# Altium schematic symbol library BMS.SchLib: 68 symbols (part 1 of 4)
Pins are listed as number, name and electrical type; pins without a type are passive.

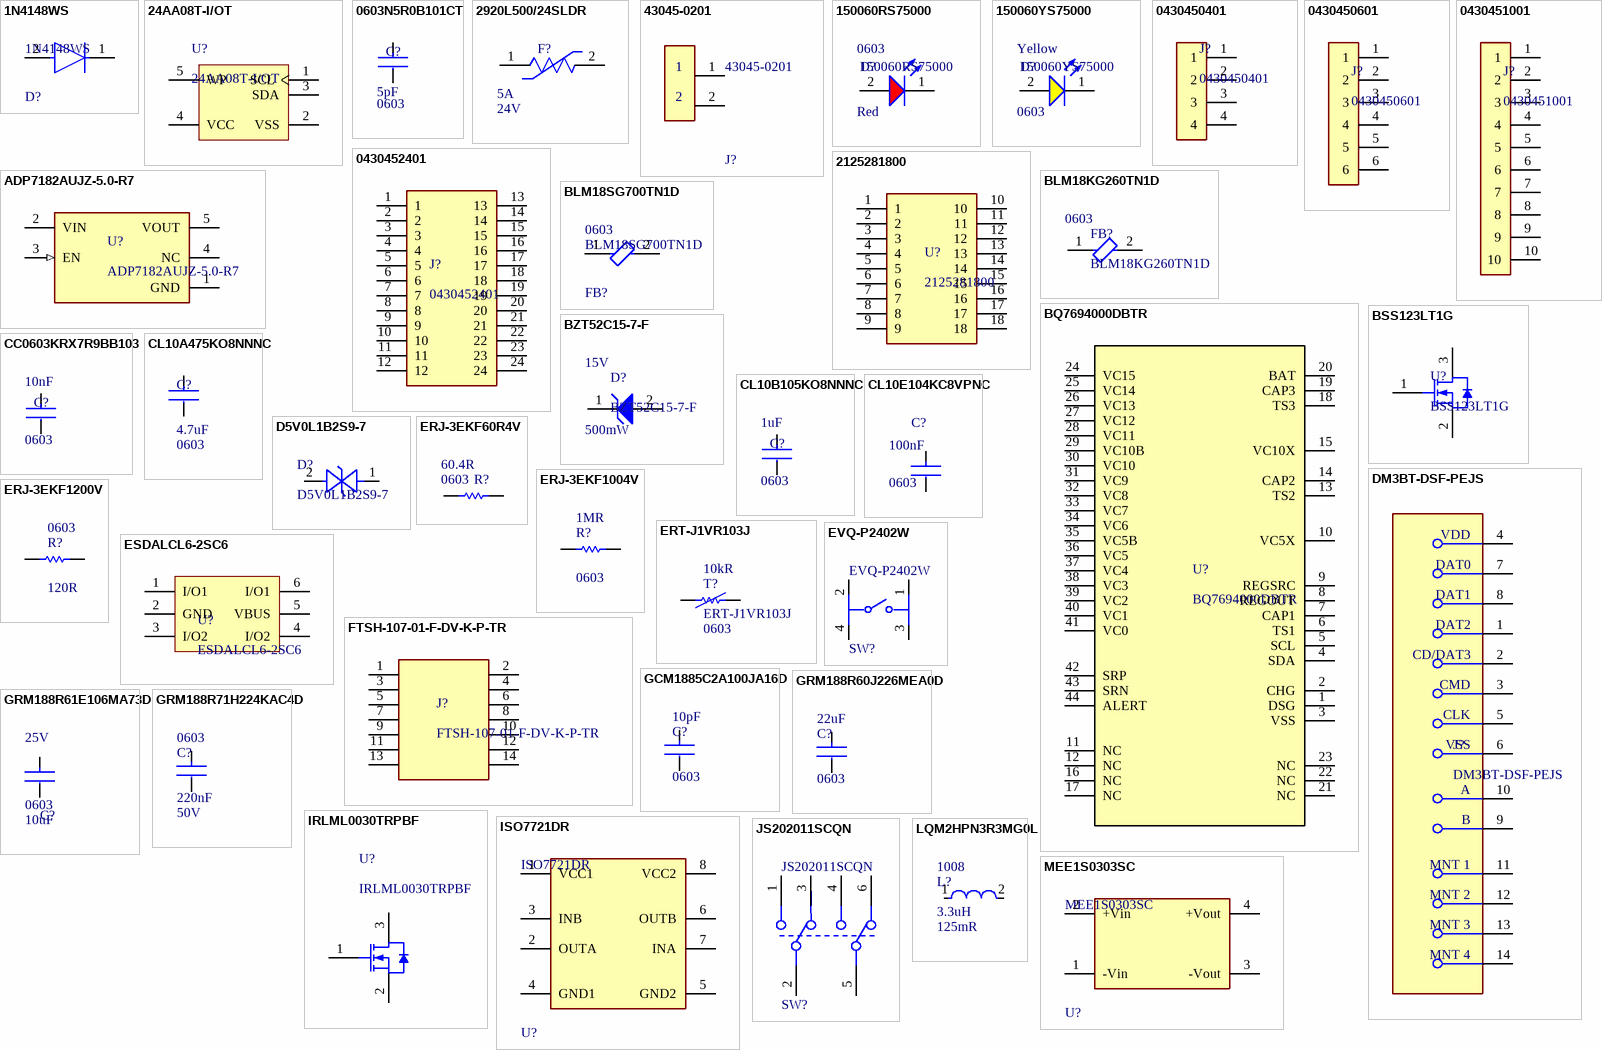
[diagram p0: symbols 1N4148WS to MEE1S0303SC]

## 1N4148WS
designator D?
DIODE STANDARD 75V 150MA SOD323F; Manufacturer: ON Semiconductor / Fairchild; Forward Voltage: 1V; Power Dissipation: 200mW; Element Configuration: Single; Max Forward Surge Current (Ifsm): 2A; Peak Reverse Current: 5uA; Recovery Time: 4ns; Value: 4pF; Package Quantity: 1; Number of Pins: 2; Height: 1mm; REACH SVHC: No SVHC; Max Reverse Voltage (DC): 75V; Forward Current: 150mA; Length: 1.8mm; Max Repetitive Reverse Voltage (Vrrm): 75V; Max Operating Temperature: 150°C; Average Rectified Current: 150mA; Contact Plating: Tin; Packaging: Tape and Reel; Radiation Hardening: No; Min Operating Temperature: -55°C; Width: 1.35mm; Weight: 0.0276g; Lead Free: Lead Free; Mount: Surface Mount; Reverse Voltage: 75V; Reverse Recovery Time: 4ns; Supplier: Arrow Electronics; Supplier Part Number: 1N4148WS; Manufacturer Part Number: 1N4148WS; RoHS: Yes; Category: Rectifier Diodes; Stock: 1101000; Pricing: 3000=0.0188, 9000=0.0158 (USD); Mounting Technology: Surface Mount; Pins: 2; Max Reverse Current: 5uA; Series: -; RoHS Compliant: Yes; Reach SVHC Compliant: No
footprint FP-477AB-IPC_B
pins: 1 C, 2 A

## 24AA08T-I/OT
designator U?
IC EEPROM 8KBIT I2C SOT23-5; Manufacturer: Microchip; Interface: I2C,Serial,2-Wire; Access Time: 900ns; Min Supply Voltage: 1.7V; Max Supply Voltage: 5.5V; Frequency: 100kHz; Density: 8Kb; Clock Frequency: 400kHz; Access Time-Max: 3500ns; Write Protection: YES; Supply Current: 3mA; Organization: 256 x 8; Write Cycle Time-Max (tWC): 5ms; DatasheetVersion: revJ, Feb-2009; PackageReference: SOT-23-OT5; Code_IPC: SOT23-5; PackageVersion: revBB, Aug-2009; PackageDescription: 5-Lead Plastic Small Outline Transistor (OT) [SOT-23]; Supplier: Arrow Electronics; Supplier Part Number: 24AA08T-I/OT; Manufacturer Part Number: 24AA08T-I/OT; RoHS: Yes; Category: EEPROM; Stock: 15000; Pricing: 3000=0.2882 (USD); Mounting Technology: Surface Mount; Case/Package: SOT-23; Pins: 5; Min Operating Temperature: -40°C; Max Operating Temperature: 85°C; Packaging: Tape and Reel; Memory Size: 8Kb; Memory Format: EEPROM; Programming Voltage: 5.5V; Package Quantity: 3000; Termination: SMD/SMT; Nominal Supply Voltage: 5.5V; Length: 3.1mm; Width: 1.8mm; Height: 1.3mm; Radiation Hardening: No; Reach SVHC Compliant: No; Lead Free: Lead Free; ComponentLink1URL: https://datasheet.ciiva.com/3185/21710j-3185200.pdf?src-supplier=Avnet; ComponentLink1Description: https://datasheet.ciiva.com/3185/21710j-3185200.pdf?src-supplier=Avnet; ComponentLink2URL: https://datasheet.ciiva.com/16208/filehandler-aspxddocname-en011857-16208680.pdf?src-supplier=Future+Electronics; ComponentLink2Description: https://datasheet.ciiva.com/16208/filehandler-aspxddocname-en011857-16208680.pdf?src-supplier=Future+Electronics; ComponentLink3URL: https://datasheet.ciiva.com/15123/getdatasheetpartid-387412-15123429.pdf?src-supplier=Verical; ComponentLink3Description: https://datasheet.ciiva.com/15123/getdatasheetpartid-387412-15123429.pdf?src-supplier=Verical; ComponentLink4URL: https://datasheet.ciiva.com/16921/70045816-16921574.pdf?src-supplier=Allied+Electronics; ComponentLink4Description: https://datasheet.ciiva.com/16921/70045816-16921574.pdf?src-supplier=Allied+Electronics; ComponentLink5URL: https://datasheet.ciiva.com/14134/24aa08-24lc08b-eng-tds-14134860.pdf?src-supplier=Distrelec; ComponentLink5Description: https://datasheet.ciiva.com/14134/24aa08-24lc08b-eng-tds-14134860.pdf?src-supplier=Distrelec; ComponentLink6URL: https://datasheet.ciiva.com/1154/1688094-1154746.pdf?src-supplier=Element14; ComponentLink6Description: https://datasheet.ciiva.com/1154/1688094-1154746.pdf?src-supplier=Element14; ComponentLink7URL: https://datasheet.ciiva.com/46410/1669361-46410950.pdf?src-supplier=Element14; ComponentLink7Description: https://datasheet.ciiva.com/46410/1669361-46410950.pdf?src-supplier=Element14
footprint SOT-23-OT5_M (SOT23, 5-Leads, Body 2.9x1.7mm, Pitch 0.95mm, Lead Span 2.8mm, IPC Low Density)
pins: 1 SCL, 2 VSS (power), 3 SDA, 4 VCC (power), 5 WP

## 0603N5R0B101CT
designator C?  value 5pF  Case: 0603  (hidden comment: 0603N5R0B101CT)
CAP CER 5PF 100V C0G/NP0 0603; Manufacturer: Walsin Technologies; Supplier: Digikey; Supplier Part Number: 1292-1649-1-ND; Manufacturer Part Number: 0603N5R0B101CT; RoHS: Yes; Category: Ceramic Capacitors; Stock: 11864; Pricing: 1=0.1, 10=0.067, 50=0.0402, 100=0.0316, 500=0.02332, 1000=0.01931 (USD); ComponentLink1URL: http://www.passivecomponent.com/wp-content/uploads/2018/10/MLCC.pdf?src-supplier=Digikey; ComponentLink1Description: http://www.passivecomponent.com/wp-content/uploads/2018/10/MLCC.pdf?src-supplier=Digikey
footprint C0603-V2
pins: 1, 2

## 2920L500/24SLDR
designator F?  value 5A  Voltage: 24V  (hidden comment: 2920L500/24SLDR)
PTC RESET FUSE 5.0A 24V 2920; Manufacturer: Littelfuse; Supplier: Digikey; Supplier Part Number: 18-2920L500/24SLDRCT-ND; Manufacturer Part Number: 2920L500/24SLDR; RoHS: Yes; Category: PTC Resettable Fuses; Stock: 611; Pricing: 1=2.92, 5=2.42, 10=2.233, 50=1.8522, 100=1.7085, 250=1.53484, 500=1.41466 (USD); ComponentLink1URL: https://datasheet.octopart.com/2920L500-24SLDR-Littelfuse-datasheet-170674149.pdf?src-supplier=Future+Electronics; ComponentLink1Description: https://datasheet.octopart.com/2920L500-24SLDR-Littelfuse-datasheet-170674149.pdf?src-supplier=Future+Electronics
footprint FUSE_0ZCF0075AF2C
pins: 1, 2

## 43045-0201
designator J?
CONN HEADER R/A 2POS; Manufacturer: Molex; Number of Circuits: 2; Glow Wire Compliant: Compliant; Pitch: 3mm; Max Voltage Rating (DC): 250.25kV; Current Rating: 5A; Contact Resistance: 10mR; Gender: Male; Voltage Rating: 250V; Connector Type: Power,Rectangular; Contact Style: SQ PIN-SKT; Dielectric Withstanding Voltage (AC): 1.5kV; Durability: 30Cycles; Insulation Resistance: 1GR; Mixed Contacts: No; Number Of Connectors: 1; Option: General Purpose; Board Mounting Option: PEG; Body/Shell Style: RECEPTACLE; Contact Pattern: RECTANGULAR; Insertion Force-Max: 11.5648N; Mating Information: MULTIPLE MATING PARTS AVAILABLE; Polarization Key: POLARIZED HOUSING; Withdrawl Force-Min: 3.0024N; Mounting Option 1: POLARIZED LCK; Body Breadth: 0.345inch; Body Depth: 0.48inch; Body Length: 0.262inch; Mating Contact Row Spacing: 0.118inch; Mounting Option 2: LOCKING; PCB Contact Row Spacing: 2.9972mm; Plating Thickness: 15uin; Reference Standard: UL; Reliability: COMMERCIAL; Number of Positions: 2; Halogen Free: Low Halogen; Series: 43045; Mount: Through Hole; Packaging: Tray; Row Spacing: 3mm; Contact Material: Brass; Radiation Hardening: No; Number of Contacts: 2; Orientation: Right Angle; Max Operating Temperature: 105°C; Housing Material: Thermoplastic; Contact Plating: Gold; Case/Package: 0201; Number of Rows: 2; Min Operating Temperature: -40°C; Termination: Solder; Package Quantity: 3168; Supplier: Arrow Electronics; Supplier Part Number: 43045-0201; Manufacturer Part Number: 43045-0201; RoHS: Yes; Category: Headers and Wire Housings; Stock: 5046; Pricing: 1=0.6234, 10=0.5719, 25=0.5498, 40=0.537, 80=0.5194, 230=0.5108 (USD); Mounting Technology: Board; Contact Finish - Mating: GOLD (15) OVER NICKEL; Contact Finish - Termination: TIN (100) OVER NICKEL; Insulation Color: Black; Insulation Material: Polymer; Shell Material: Polymer; Contact Gender: Male; Mounting Style: RIGHT ANGLE; JESD-609 Code: e3; Empty Shell: No; Filter Feature: No; Number Of PCB Rows: 2; Number of Rows Loaded: 2; PCB Contact Pattern: RECTANGULAR; Rated Current (Signal): 5A; Terminal Length: 0.125inch; Flammability Rating: UL94 V-0; Reach SVHC Compliant: Yes; RoHS Compliant: Yes; DIN Conformance: No; IEC Conformance: No; MIL Conformance: No; ComponentLink1URL: https://datasheet.ciiva.com:443/pdfs/VipMasterIC/IC/MOLE/MOLE-S-A0003536766/MOLE-S-A0003536766-1.pdf?src-supplier=IHS+Markit; ComponentLink1Description: https://datasheet.ciiva.com:443/pdfs/VipMasterIC/IC/MOLE/MOLE-S-A0003536766/MOLE-S-A0003536766-1.pdf?src-supplier=IHS+Markit; ComponentLink2URL: https://datasheet.ciiva.com/10089/0430450201-pcb-headers-10089441.pdf?src-supplier=Avnet; ComponentLink2Description: https://datasheet.ciiva.com/10089/0430450201-pcb-headers-10089441.pdf?src-supplier=Avnet; ComponentLink3URL: https://datasheet.ciiva.com/30109/87140430450201-pcb-headers-30109745.pdf?src-supplier=Onlinecomponents.com; ComponentLink3Description: https://datasheet.ciiva.com/30109/87140430450201-pcb-headers-30109745.pdf?src-supplier=Onlinecomponents.com; ComponentLink4URL: https://datasheet.ciiva.com/6841/430450201-sd-6841067.pdf?src-supplier=Digikey; ComponentLink4Description: https://datasheet.ciiva.com/6841/430450201-sd-6841067.pdf?src-supplier=Digikey; ComponentLink5URL: https://datasheet.ciiva.com/26310/micro-fit-eng-tds-26310749.pdf?src-supplier=Distrelec; ComponentLink5Description: https://datasheet.ciiva.com/26310/micro-fit-eng-tds-26310749.pdf?src-supplier=Distrelec
footprint FP-43045-0201-MFG
pins: 1, 2

## 150060RS75000
designator D?  Color: Red  Case/Package: 0603
LED RED CLEAR 0603 SMD; Manufacturer: Wurth Electronics; Max Junction Temperature (Tj): 95°C; Dominant Wavelength: 625nm; Lens Style: Clear, Rectangular; Viewing Angle: 140°; Forward Current: 100mA; Max Reverse Voltage (DC): 5V; Luminous Intensity: 250mcd; Peak Wavelength: 630nm; Test Current: 20mA; Power Dissipation: 72mW; Forward Voltage: 2V; Lens Color: Colorless; Lens Size: 0.7mm; Max Operating Temperature: 85°C; Mount: Surface Mount; Height: 700µm; Packaging: Tape and Reel; REACH SVHC: Unknown; Case Code (Metric): 1608; RoHS: Compliant; Width: 800µm; Reverse Voltage: 5V; Min Operating Temperature: -40°C; Wavelength: 625nm; Case Code (Imperial): 0603; Length: 1.6mm; Supplier: Digikey; Supplier Part Number: 732-4978-6-ND; Manufacturer Part Number: 150060RS75000; Category: LEDs; Pricing: 1=0.14, 50=0.1278, 100=0.1098, 500=0.10124 (USD); Mounting Technology: Surface Mount; Package Quantity: 1; Series: WL-SMCW; Lens Transparency: Clear; RoHS Compliant: Yes; Reach SVHC Compliant: Unknown; ComponentLink1URL: https://datasheet.ciiva.com/29563/150060rs75000-29563040.pdf?src-supplier=Digikey; ComponentLink1Description: https://datasheet.ciiva.com/29563/150060rs75000-29563040.pdf?src-supplier=Digikey; ComponentLink2URL: https://datasheet.ciiva.com/29279/759428-da-01-en-chipled-0603-w-kl-rot-150060rs75000-29279196.pdf?src-supplier=Conrad; ComponentLink2Description: https://datasheet.ciiva.com/29279/759428-da-01-en-chipled-0603-w-kl-rot-150060rs75000-29279196.pdf?src-supplier=Conrad
footprint WL-SMCW_0603_150060xx75000 (SMD Mono-color Chip LED, body 1.60 x 0.80 mm)
pins: 1 K, 2 A

## 150060YS75000
designator D?  Case/Package: 0603  Color: Yellow
LED YELLOW CLEAR 0603 SMD; Manufacturer: Wurth Electronics; Manufacturer Part Number: 150060RS75000; Max Junction Temperature (Tj): 95°C; Dominant Wavelength: 625nm; Lens Style: Clear, Rectangular; Viewing Angle: 140°; Forward Current: 100mA; Max Reverse Voltage (DC): 5V; Luminous Intensity: 250mcd; Peak Wavelength: 630nm; Test Current: 20mA; Power Dissipation: 72mW; Forward Voltage: 2V; Lens Color: Colorless; Lens Size: 0.7mm; Output Current: 10uA; Max Operating Temperature: 85°C; Mount: Surface Mount; Height: 700µm; Packaging: Tape and Reel; REACH SVHC: Unknown; Case Code (Metric): 1608; RoHS: Compliant; Width: 800µm; Reverse Voltage: 5V; Min Operating Temperature: -40°C; Wavelength: 625nm; Case Code (Imperial): 0603; Length: 1.6mm; Supplier: Digikey; Supplier Part Number: 732-4978-6-ND; Category: LEDs; Pricing: 1=0.14, 50=0.1278, 100=0.1098, 500=0.10124 (USD); Mounting Technology: Surface Mount; Package Quantity: 1; Series: WL-SMCW; Lens Transparency: Clear; RoHS Compliant: Yes; Reach SVHC Compliant: Unknown; ComponentLink1URL: https://datasheet.ciiva.com/29563/150060rs75000-29563040.pdf?src-supplier=Digikey; ComponentLink1Description: https://datasheet.ciiva.com/29563/150060rs75000-29563040.pdf?src-supplier=Digikey; ComponentLink2URL: https://datasheet.ciiva.com/29279/759428-da-01-en-chipled-0603-w-kl-rot-150060rs75000-29279196.pdf?src-supplier=Conrad; ComponentLink2Description: https://datasheet.ciiva.com/29279/759428-da-01-en-chipled-0603-w-kl-rot-150060rs75000-29279196.pdf?src-supplier=Conrad; Stock: 104234; Lead Free: Lead Free; ComponentLink3URL: https://datasheet.ciiva.com/29562/150060gs75000-29562868.pdf?src-supplier=Digikey; ComponentLink3Description: https://datasheet.ciiva.com/29562/150060gs75000-29562868.pdf?src-supplier=Digikey; ComponentLink4URL: https://datasheet.ciiva.com/29279/759427-da-01-en-chipled-0603-w-kl-gruen-150060gs75000-29279201.pdf?src-supplier=Conrad; ComponentLink4Description: https://datasheet.ciiva.com/29279/759427-da-01-en-chipled-0603-w-kl-gruen-150060gs75000-29279201.pdf?src-supplier=Conrad; ComponentLink5URL: https://datasheet.ciiva.com/29562/150060gs75000-29562869.pdf?src-supplier=Digikey; ComponentLink5Description: https://datasheet.ciiva.com/29562/150060gs75000-29562869.pdf?src-supplier=Digikey; ComponentLink6URL: https://datasheet.ciiva.com/29562/150060gs75000-29562870.pdf?src-supplier=Digikey; ComponentLink6Description: https://datasheet.ciiva.com/29562/150060gs75000-29562870.pdf?src-supplier=Digikey; ComponentLink7URL: https://datasheet.ciiva.com/23843/150060ys75000-23843250.pdf?src-supplier=Newark; ComponentLink7Description: https://datasheet.ciiva.com/23843/150060ys75000-23843250.pdf?src-supplier=Newark; ComponentLink8URL: https://datasheet.ciiva.com/29279/759432-da-01-en-chipled-0603-w-kl-gelb-150060ys75000-29279206.pdf?src-supplier=Conrad; ComponentLink8Description: https://datasheet.ciiva.com/29279/759432-da-01-en-chipled-0603-w-kl-gelb-150060ys75000-29279206.pdf?src-supplier=Conrad; ComponentLink9URL: https://datasheet.ciiva.com/29563/150060ys75000-29563033.pdf?src-supplier=Digikey; ComponentLink9Description: https://datasheet.ciiva.com/29563/150060ys75000-29563033.pdf?src-supplier=Digikey; ComponentLink10URL: https://datasheet.ciiva.com/29563/150060ys75000-29563045.pdf?src-supplier=Digikey; ComponentLink10Description: https://datasheet.ciiva.com/29563/150060ys75000-29563045.pdf?src-supplier=Digikey; ComponentLink11URL: https://datasheet.ciiva.com/48430/150060ys75000-eng-tds-48430044.pdf?src-supplier=Distrelec; ComponentLink11Description: https://datasheet.ciiva.com/48430/150060ys75000-eng-tds-48430044.pdf?src-supplier=Distrelec; ComponentLink12URL: https://datasheet.ciiva.com/22656/1911348-22656951.pdf?src-supplier=Element14; ComponentLink12Description: https://datasheet.ciiva.com/22656/1911348-22656951.pdf?src-supplier=Element14
footprint WL-SMCW_0603_150060xx75000 (SMD Mono-color Chip LED, body 1.60 x 0.80 mm)
pins: 1 K, 2 A

## 0430450401
designator J?
CONN HEADER R/A 4POS 3MM; Manufacturer: Molex; Manufacturer Part Number: 43045-0401; Plating: Tin; Contact Resistance: 10mR; Max Current Rating: 5A; Voltage Rating: 250V; Max Voltage Rating (DC): 250.25kV; Number of Positions: 4; Gender: Male; Glow Wire Compliant: Compliant; Supplier: Mouser; Supplier Part Number: 538-43045-0401; RoHS: Yes; Category: Headers and Wire Housings; Stock: 2647; Pricing: 1=1.46, 10=0.992, 50=0.992, 100=0.992, 1000=0.959, 10000=0.959 (USD); Mounting Technology: Through Hole; Case/Package: SMC; Contact Plating: Gold; Contact Material: Brass; Color: Black; Housing Color: Black; Housing Material: Thermoplastic; Min Operating Temperature: -40°C; Max Operating Temperature: 105°C; Number of Rows: 2; Packaging: Tray; Current Rating: 5A; Package Quantity: 2232; Termination: Solder; Number of Contacts: 4; Number of Circuits: 4; Orientation: Right Angle; Series: 43045; Length: 10.15mm; Height: 8.77mm; Pitch: 3mm; Row Spacing: 3mm; Depth: 12.2mm; Radiation Hardening: No; Halogen Free: Low Halogen; Flammability Rating: UL94 V-0; RoHS Compliant: Yes; Reach SVHC Compliant: Unknown; ComponentLink1URL: https://datasheet.ciiva.com/10090/0430450401-pcb-headers-10090512.pdf?src-supplier=Avnet; ComponentLink1Description: https://datasheet.ciiva.com/10090/0430450401-pcb-headers-10090512.pdf?src-supplier=Avnet; ComponentLink2URL: https://datasheet.ciiva.com/1443/1780486-1443445.pdf?src-supplier=Element14; ComponentLink2Description: https://datasheet.ciiva.com/1443/1780486-1443445.pdf?src-supplier=Element14
footprint FP-43045-0401-MFG
pins: 1, 2, 3, 4

## 0430450601
designator J?
CONN HEADER R/A 6POS 3MM; Manufacturer: Molex; Manufacturer Part Number: 43045-0601; Plating: Tin; Current Rating: 5A; Gender: Male; Number of Circuits: 6; Voltage Rating: 600V; Voltage Rating (DC): 250V; Connector Type: Plug; Insulation Resistance: 1GR; Max Current Rating: 3A; Glow Wire Compliant: Compliant; Supplier: Mouser; Supplier Part Number: 538-43045-0601; RoHS: Yes; Category: Headers and Wire Housings; Stock: 3710; Pricing: 1=1.55, 10=1.23, 50=1.23, 100=1.23, 1000=1.23, 10000=1.23 (USD); Mounting Technology: Through Hole; Pins: 6; Color: Black; Contact Material: Nickel,Gold; Contact Plating: Gold; Housing Color: Black; Housing Material: Thermoplastic; Min Operating Temperature: -40°C; Max Operating Temperature: 125°C; Number of Contacts: 6; Number of Positions: 6; Number of Rows: 2; Orientation: Right Angle; Termination: Through Hole; Length: 27.94mm; Height: 9.27mm; Pitch: 3mm; Row Spacing: 3mm; Depth: 9.27mm; Lead Pitch: 3mm; Radiation Hardening: No; RoHS Compliant: Yes; Flammability Rating: UL94 V-0; Halogen Free: Low Halogen; Reach SVHC Compliant: Unknown
footprint FP-43045-0601-MFG
pins: 1, 2, 3, 4, 5, 6

## 0430451001
designator J?
CONN HEADER R/A 10POS 3MM; Manufacturer: Molex; Manufacturer Part Number: 43045-1001; Manufacturer Series: 43045; Connector Type: Power,Rectangular; Option: General Purpose; Board Mounting Option: PEG; Body/Shell Style: RECEPTACLE; Contact Pattern: RECTANGULAR; Contact Resistance: 10mR; Contact Style: SQ PIN-SKT; Dielectric Withstanding Voltage (AC): 1.5kV; Durability: 30Cycles; Empty Shell: No; Insertion Force-Max: 11.5648N; Insulation Resistance: 1GR; Mating Information: MULTIPLE MATING PARTS AVAILABLE; Number Of Connectors: 1; Number Of PCB Rows: 2; Polarization Key: POLARIZED HOUSING; Rated Current (Signal): 5A; Number of Contacts: 10; Withdrawl Force-Min: 3.0024N; Body Breadth: 0.345inch; Body Depth: 0.48inch; Body Length: 0.734inch; Mating Contact Pitch: 0.118inch; Mounting Option 1: POLARIZED LCK; Mounting Option 2: LOCKING; PCB Contact Row Spacing: 2.9972mm; Plating Thickness: 15uin; Reference Standard: UL; Reliability: COMMERCIAL; Supplier: Arrow Electronics; Supplier Part Number: 43045-1001; RoHS: Yes; Category: Headers and Wire Housings; Stock: 4420; Pricing: 1=1.2177, 10=1.1755, 80=1.1321, 440=1.0922, 2448=1.0628 (USD); Mounting Technology: Board; Contact Material: Brass; Contact Finish - Mating: GOLD (15) OVER NICKEL; Contact Finish - Termination: TIN (100) OVER NICKEL; Insulation Color: Black; Insulation Material: Polymer; Shell Material: Polymer; Min Operating Temperature: -40°C; Max Operating Temperature: 105°C; JESD-609 Code: e3; Contact Gender: Male; Filter Feature: No; Mixed Contacts: No; Mounting Style: RIGHT ANGLE; Number of Rows Loaded: 2; PCB Contact Pattern: RECTANGULAR; Termination: Solder; Mating Contact Row Spacing: 0.118inch; Terminal Length: 0.125inch; Terminal Pitch: 2.9972mm; Flammability Rating: UL94 V-0; DIN Conformance: No; IEC Conformance: No; MIL Conformance: No; Reach SVHC Compliant: Yes; RoHS Compliant: Yes; ComponentLink1URL: https://datasheet.ciiva.com:443/pdfs/VipMasterIC/IC/MOLE/MOLE-S-A0003536766/MOLE-S-A0003536766-1.pdf?src-supplier=IHS+Markit; ComponentLink1Description: https://datasheet.ciiva.com:443/pdfs/VipMasterIC/IC/MOLE/MOLE-S-A0003536766/MOLE-S-A0003536766-1.pdf?src-supplier=IHS+Markit; ComponentLink2URL: https://datasheet.ciiva.com/19454/883616-19454014.pdf?src-supplier=Jameco; ComponentLink2Description: https://datasheet.ciiva.com/19454/883616-19454014.pdf?src-supplier=Jameco; ComponentLink3URL: https://datasheet.ciiva.com/7810/1243827-7810522.pdf?src-supplier=Element14; ComponentLink3Description: https://datasheet.ciiva.com/7810/1243827-7810522.pdf?src-supplier=Element14
footprint FP-43045-1001-MFG
pins: 1, 2, 3, 4, 5, 6, 7, 8, 9, 10

## 0430452401
designator J?
CONN HEADER R/A 24POS 3MM; Manufacturer: Molex; Manufacturer Part Number: 43045-2401; Current Rating: 5A; Voltage Rating: 600V; Contact Resistance: 10mR; Number of Positions: 24; Gender: Male; Glow Wire Compliant: Compliant; Supplier: Mouser; Supplier Part Number: 538-43045-2401; RoHS: Yes; Category: Headers and Wire Housings; Stock: 221; Pricing: 1=4.88, 10=4.49, 50=4.31, 100=4.31, 1000=4.31, 10000=4.31 (USD); Mounting Technology: Through Hole; Contact Material: Brass; Contact Plating: Gold; Color: Black; Housing Material: Thermoplastic; Min Operating Temperature: -40°C; Max Operating Temperature: 105°C; Packaging: Tray; Package Quantity: 576; Number of Rows: 2; Termination: Through Hole; Number of Contacts: 24; Orientation: Right Angle; Number of Circuits: 24; Series: 43045; Pitch: 3mm; Row Spacing: 3mm; Halogen Free: Low Halogen; RoHS Compliant: Yes; ComponentLink1URL: https://datasheet.ciiva.com/6814/430450202-sd-6814012.pdf?src-supplier=Digikey; ComponentLink1Description: https://datasheet.ciiva.com/6814/430450202-sd-6814012.pdf?src-supplier=Digikey; ComponentLink2URL: https://datasheet.ciiva.com/30246/0430452401-pcb-headers-30246022.pdf?src-supplier=Onlinecomponents.com; ComponentLink2Description: https://datasheet.ciiva.com/30246/0430452401-pcb-headers-30246022.pdf?src-supplier=Onlinecomponents.com; ComponentLink3URL: https://datasheet.ciiva.com/5154/0430452401-pcb-headers-143114-5154404.pdf?src-supplier=Mouser; ComponentLink3Description: https://datasheet.ciiva.com/5154/0430452401-pcb-headers-143114-5154404.pdf?src-supplier=Mouser
footprint MOLEX_430452401
pins: 1, 2, 3, 4, 5, 6, 7, 8, 9, 10, 11, 12, 13, 14, 15, 16, 17, 18, 19, 20, 21, 22, 23, 24

## 2125281800
designator U?
R/A HDR TIN 2X9CKT; Manufacturer: Molex; Manufacturer Part Number: 212528-1800; Supplier: Mouser; Supplier Part Number: 538-212528-1800; RoHS: No; Category: Headers and Wire Housings; Stock: 308; Pricing: 1=3.9, 10=3.51, 50=3.51, 100=3.51, 1000=3.51, 10000=3.51 (USD); ComponentLink1URL: http://datasheet.octopart.com/2125281800-Molex-datasheet-147959531.pdf?src-supplier=Avnet; ComponentLink1Description: http://datasheet.octopart.com/2125281800-Molex-datasheet-147959531.pdf?src-supplier=Avnet; ComponentLink2URL: http://datasheet.octopart.com/2125281800-Molex-datasheet-147959531.pdf?src-supplier=Onlinecomponents.com; ComponentLink2Description: http://datasheet.octopart.com/2125281800-Molex-datasheet-147959531.pdf?src-supplier=Onlinecomponents.com; ComponentLink3URL: http://datasheet.octopart.com/2125281800-Molex-datasheet-147959531.pdf?src-supplier=Mouser; ComponentLink3Description: http://datasheet.octopart.com/2125281800-Molex-datasheet-147959531.pdf?src-supplier=Mouser; ComponentLink4URL: http://datasheet.octopart.com/2125281800-Molex-datasheet-147959531.pdf?src-supplier=Newark; ComponentLink4Description: http://datasheet.octopart.com/2125281800-Molex-datasheet-147959531.pdf?src-supplier=Newark; ComponentLink5URL: http://datasheet.octopart.com/2125281800-Molex-datasheet-147959531.pdf?src-supplier=Digikey; ComponentLink5Description: http://datasheet.octopart.com/2125281800-Molex-datasheet-147959531.pdf?src-supplier=Digikey; ComponentLink6URL: http://datasheet.octopart.com/2125281800-Molex-datasheet-147959531.pdf?src-supplier=Electro+Sonic; ComponentLink6Description: http://datasheet.octopart.com/2125281800-Molex-datasheet-147959531.pdf?src-supplier=Electro+Sonic; ComponentLink7URL: http://datasheet.octopart.com/2125281800-Molex-datasheet-147959531.pdf?src-supplier=Heilind+Electronics; ComponentLink7Description: http://datasheet.octopart.com/2125281800-Molex-datasheet-147959531.pdf?src-supplier=Heilind+Electronics
footprint MOLEX_2125281800
pins: 1, 2, 3, 4, 5, 6, 7, 8, 9, 10, 11, 12, 13, 14, 15, 16, 17, 18

## ADP7182AUJZ-5.0-R7
designator U?
IC REG LIN -5V 200MA TSOT-23-5; Manufacturer: Analog Devices; Manufacturer Lifecycle Status: PRODUCTION; Description: Positive or negative enable logic | IC REG LINEAR -5V 200MA 5TSOT; Accuracy: 1%; Dropout Voltage: -25mV; Max Supply Voltage: -28V; Max Junction Temperature (Tj): 125°C; Max Output current: -200mA; Max Output Voltage: -25.3V; Max Supply Current: -650µA; Min Current Limit: 230mA; Min Input Voltage: -2.7V; Number of Outputs: 1; Output Type: Fixed; Polarity: Negative; Power Supply Rejection Ratio (PSRR): 45dB; Quiescent Current: 53µA; Supplier: Newark; Supplier Part Number: 60AK5481; Manufacturer Part Number: ADP7182AUJZ-5.0-R7; RoHS: Compliant; Category: Voltage Regulators - Linear; Stock: 2315; Pricing: 1=4.78, 10=4.38, 25=4.05, 50=4.05, 100=3.76, 250=3.51, 500=3.34, 1000=3.28 (CAD); Ambient Temperature Range High: 85°C; Case/Package: SOT-23-5; Contact Plating: Tin; Height: 1mm; Lead Free: Contains Lead; Lifecycle Status: Production; Max Operating Temperature: 125°C; Min Operating Temperature: -40°C; Min Output Voltage: -2.7V; Min Supply Voltage: -2.7V; Mounting Technology: Surface Mount; Nominal Supply Current: -650µA; Pins: 5; Number of Regulators: 1; Operating Supply Current: -650µA; Output Current: 200mA; Output Voltage: -5V; Schedule B: 8542390000, 8542390000|8542390000|8542390000|8542390000|8542390000; ComponentLink1URL: https://octopart.com:443/opatz8j6/c1?t=f-sdDTfXUVUM9OgjWryEfiH86oBvaVRuJmONzRbNFEqgpZPystiR-9nyp_nqx6AZJ500OHuifHWGTrSP0lSTnLCVYkbKMz3F73dtQu4l8E5wQ_y8reylnxaFQwtUR60IstaFe3eI3k-hdng0q8E_F_ovWGYaM2MZ6QDaP20Aw613KOXUpMzFtF_tWJ-bBmOHO7a9_gRE_U1ZWk_oZSNkzTJaNC45ojDeTElJ3N_68Jwc9bOMWPotK9LFj15An9Nt1JT2s6V5_FRC6svwXmQ3MhG76Fp6UdiS7525-JwBydvItwRtqI7mlA&src-supplier=Analog+Devices; ComponentLink1Description: https://octopart.com:443/opatz8j6/c1?t=f-sdDTfXUVUM9OgjWryEfiH86oBvaVRuJmONzRbNFEqgpZPystiR-9nyp_nqx6AZJ500OHuifHWGTrSP0lSTnLCVYkbKMz3F73dtQu4l8E5wQ_y8reylnxaFQwtUR60IstaFe3eI3k-hdng0q8E_F_ovWGYaM2MZ6QDaP20Aw613KOXUpMzFtF_tWJ-bBmOHO7a9_gRE_U1ZWk_oZSNkzTJaNC45ojDeTElJ3N_68Jwc9bOMWPotK9LFj15An9Nt1JT2s6V5_FRC6svwXmQ3MhG76Fp6UdiS7525-JwBydvItwRtqI7mlA&src-supplier=Analog+Devices; ComponentLink2URL: https://datasheet.octopart.com:443/ADP7182AUJZ-5.0-R7-Analog-Devices-datasheet-32539719.pdf?src-supplier=Analog+Devices; ComponentLink2Description: https://datasheet.octopart.com:443/ADP7182AUJZ-5.0-R7-Analog-Devices-datasheet-32539719.pdf?src-supplier=Analog+Devices; ComponentLink3URL: https://datasheet.octopart.com:443/ADP7182AUJZ-5.0-R7-Analog-Devices-datasheet-22148519.pdf?src-supplier=Analog+Devices; ComponentLink3Description: https://datasheet.octopart.com:443/ADP7182AUJZ-5.0-R7-Analog-Devices-datasheet-22148519.pdf?src-supplier=Analog+Devices; ComponentLink4URL: https://datasheet.octopart.com:443/ADP7182AUJZ-5.0-R7-Analog-Devices-datasheet-15407874.pdf?src-supplier=Analog+Devices; ComponentLink4Description: https://datasheet.octopart.com:443/ADP7182AUJZ-5.0-R7-Analog-Devices-datasheet-15407874.pdf?src-supplier=Analog+Devices; ComponentLink5URL: https://datasheet.octopart.com:443/ADP7182AUJZ-5.0-R7-Analog-Devices-datasheet-138896290.pdf?src-supplier=element14+APAC; ComponentLink5Description: https://datasheet.octopart.com:443/ADP7182AUJZ-5.0-R7-Analog-Devices-datasheet-138896290.pdf?src-supplier=element14+APAC; ComponentLink6URL: https://sigma.octopart.com:443/140664465/technical_drawing/Analog-Devices-ADP7182AUJZ-5.0-R7.pdf?src-supplier=Upverter; ComponentLink6Description: https://sigma.octopart.com:443/140664465/technical_drawing/Analog-Devices-ADP7182AUJZ-5.0-R7.pdf?src-supplier=Upverter; ComponentLink7URL: https://datasheet.octopart.com:443/ADP7182AUJZ-5.0-R7-Analog-Devices-datasheet-81715052.pdf?src-supplier=Augswan; ComponentLink7Description: https://datasheet.octopart.com:443/ADP7182AUJZ-5.0-R7-Analog-Devices-datasheet-81715052.pdf?src-supplier=Augswan; ComponentLink8URL: https://datasheet.octopart.com:443/ADP7182AUJZ-5.0-R7-Analog-Devices-datasheet-80865417.pdf?src-supplier=Farnell; ComponentLink8Description: https://datasheet.octopart.com:443/ADP7182AUJZ-5.0-R7-Analog-Devices-datasheet-80865417.pdf?src-supplier=Farnell; ComponentLink9URL: https://datasheet.octopart.com:443/ADP7182AUJZ-5.0-R7-Analog-Devices-datasheet-140566826.pdf?src-supplier=Arrow.cn; ComponentLink9Description: https://datasheet.octopart.com:443/ADP7182AUJZ-5.0-R7-Analog-Devices-datasheet-140566826.pdf?src-supplier=Arrow.cn; ComponentLink10URL: http://sigma.octopart.com:80/conflict_mineral_statement/Analog-Devices-company-33.pdf?src-supplier=Compliance+Statements; ComponentLink10Description: http://sigma.octopart.com:80/conflict_mineral_statement/Analog-Devices-company-33.pdf?src-supplier=Compliance+Statements; ComponentLink11URL: https://octopart.com:443/opatz8j6/c1?t=TC2AIcbmrW42p4cgxYDuYVgbub91Pn7JPAgX-RC7ws71fwQaC7UR5ET4F9cMUxgzDTZDFagmnhTPsBD4G5cR3IGQsdmoF0g22yNF17U652quAJlUW_MaX5mK0a-q5wmr6xMfqBnhng-3upd6Om9hyjFK8mDbfDC1T-5p5-ZdMqrxMSEd1hpzCQ0IKq6PxALpuIgp5OdNrKz_GwdkIhLzo5c3fXuUugOx6Xbp1zu61IAv6Exf2JBHmv6XumEoMC1ee1mtpP_6Z-nVSNeE3XeDQrz-nQpA-sIhIMSMlW2ckA-yS7oBcBQ1bw&src-supplier=Compliance+Statements; ComponentLink11Description: https://octopart.com:443/opatz8j6/c1?t=TC2AIcbmrW42p4cgxYDuYVgbub91Pn7JPAgX-RC7ws71fwQaC7UR5ET4F9cMUxgzDTZDFagmnhTPsBD4G5cR3IGQsdmoF0g22yNF17U652quAJlUW_MaX5mK0a-q5wmr6xMfqBnhng-3upd6Om9hyjFK8mDbfDC1T-5p5-ZdMqrxMSEd1hpzCQ0IKq6PxALpuIgp5OdNrKz_GwdkIhLzo5c3fXuUugOx6Xbp1zu61IAv6Exf2JBHmv6XumEoMC1ee1mtpP_6Z-nVSNeE3XeDQrz-nQpA-sIhIMSMlW2ckA-yS7oBcBQ1bw&src-supplier=Compliance+Statements
footprint FP-UJ-5-IPC_B
pins: 1 GND (power), 2 VIN (power), 3 EN (in), 4 NC, 5 VOUT (power)

## BLM18KG260TN1D
designator FB?  Case Code: 0603
FERRITE BEAD 26 OHM 0603 1LN; Manufacturer: Murata; DC Resistance-Max: 7mR; Filter Type: FERRITE CHIP; Clock Frequency: 100MHz; Channels: 1; Output Impedance: 26R; Current Rating: 6A; Supplier: Mouser; Supplier Part Number: 81-BLM18KG260TN1D; Manufacturer Part Number: BLM18KG260TN1D; RoHS: Yes; Category: Ferrite Beads and Chips; Stock: 663224; Pricing: 1=0.1, 10=0.049, 50=0.049, 100=0.038, 1000=0.03, 10000=0.018 (USD); Mounting Technology: Surface Mount; Material: Ferrite; Terminal Finish: Tin; Min Operating Temperature: -55°C; Max Operating Temperature: 125°C; JESD-609 Code: e3; Construction: Chip Bead; Min Frequency: 100MHz; Packaging: Tape and Reel; Length: 1.6mm; Width: 0.8mm; Height: 0.6mm; Reach SVHC Compliant: Yes; RoHS Compliant: Yes; ComponentLink1URL: https://datasheet.ciiva.com:443/pdfs/VipMasterIC/IC/MURE/MURE-S-A0008515766/MURE-S-A0008515893-1.pdf?src-supplier=IHS+Markit; ComponentLink1Description: https://datasheet.ciiva.com:443/pdfs/VipMasterIC/IC/MURE/MURE-S-A0008515766/MURE-S-A0008515893-1.pdf?src-supplier=IHS+Markit; ComponentLink2URL: https://datasheet.ciiva.com/1561/486545-1561360.pdf?src-supplier=Newark; ComponentLink2Description: https://datasheet.ciiva.com/1561/486545-1561360.pdf?src-supplier=Newark; ComponentLink3URL: https://datasheet.ciiva.com/11795/0900766b81076276-11795745.pdf?src-supplier=Rs; ComponentLink3Description: https://datasheet.ciiva.com/11795/0900766b81076276-11795745.pdf?src-supplier=Rs; ComponentLink4URL: https://datasheet.ciiva.com/1012/l0110e-1012293.pdf?src-supplier=Digikey; ComponentLink4Description: https://datasheet.ciiva.com/1012/l0110e-1012293.pdf?src-supplier=Digikey; ComponentLink5URL: https://datasheet.ciiva.com/1012/l0110e-1012294.pdf?src-supplier=Digikey; ComponentLink5Description: https://datasheet.ciiva.com/1012/l0110e-1012294.pdf?src-supplier=Digikey; ComponentLink6URL: https://datasheet.ciiva.com/1012/l0110e-1012295.pdf?src-supplier=Digikey; ComponentLink6Description: https://datasheet.ciiva.com/1012/l0110e-1012295.pdf?src-supplier=Digikey; ComponentLink7URL: https://datasheet.ciiva.com/3082/l0110s0100blm18k-3082724.pdf?src-supplier=Avnet; ComponentLink7Description: https://datasheet.ciiva.com/3082/l0110s0100blm18k-3082724.pdf?src-supplier=Avnet; ComponentLink8URL: https://datasheet.ciiva.com/22715/486545-22715703.pdf?src-supplier=Element14; ComponentLink8Description: https://datasheet.ciiva.com/22715/486545-22715703.pdf?src-supplier=Element14; ComponentLink9URL: https://datasheet.ciiva.com/16419/l0110s0100blm18k-16419176.pdf?src-supplier=Future+Electronics; ComponentLink9Description: https://datasheet.ciiva.com/16419/l0110s0100blm18k-16419176.pdf?src-supplier=Future+Electronics
footprint BLM18SG700TN1D-MFG
pins: 1, 2

## BLM18SG700TN1D
designator FB?  Case Code (Imperial): 0603
FERRITE BEAD 70 OHM 0603 1LN; Manufacturer: Murata; Max DC Current: 4A; Tolerance: 25%; DC Resistance (DCR): 20mR; Material: Steel; Test Frequency: 100MHz; Number of Circuits: 1; Impedance: 70R; Filter Type: FERRITE CHIP; Lead Free: Lead Free; Min Operating Temperature: -55°C; Width: 0.8mm; Case Code (Metric): 1608; RoHS Compliant: Yes; Core Material: Ferrite; Max Operating Temperature: 125°C; Number of Pins: 2; Current Rating: 4A; Series: BLM18S; Depth: 0.8mm; Packaging: Tape and Reel; Height: 0.8mm; Number of Lines: 1; Case/Package: 0603; Package Quantity: 1; Termination: SMD/SMT; REACH SVHC: No SVHC; Max Current Rating: 4A; DC Resistance-Max: 20mR; Length: 1.6mm; Supplier: Mouser; Supplier Part Number: 81-BLM18SG700TN1D; Manufacturer Part Number: BLM18SG700TN1D; RoHS: Yes; Category: Ferrite Beads and Chips; Stock: 139676; Pricing: 1=0.14, 10=0.071, 50=0.071, 100=0.049, 1000=0.041, 10000=0.03 (USD); Mounting Technology: Surface Mount; Case Code: 0603; Terminal Finish: Tin; JESD-609 Code: e3; Construction: Chip Bead; Clock Frequency: 100MHz; Min Frequency: 100MHz; Channels: 1; Output Impedance: 70R; Reach SVHC Compliant: Yes; ComponentLink1URL: https://datasheet.ciiva.com:443/pdfs/VipMasterIC/IC/MURE/MURE-S-A0008515766/MURE-S-A0008515869-1.pdf?src-supplier=IHS+Markit; ComponentLink1Description: https://datasheet.ciiva.com:443/pdfs/VipMasterIC/IC/MURE/MURE-S-A0008515766/MURE-S-A0008515869-1.pdf?src-supplier=IHS+Markit; ComponentLink2URL: https://datasheet.ciiva.com/8021/5151-8021529.pdf?src-supplier=Element14; ComponentLink2Description: https://datasheet.ciiva.com/8021/5151-8021529.pdf?src-supplier=Element14; ComponentLink3URL: https://datasheet.ciiva.com/8021/5151-8021530.pdf?src-supplier=Element14; ComponentLink3Description: https://datasheet.ciiva.com/8021/5151-8021530.pdf?src-supplier=Element14; ComponentLink4URL: https://datasheet.ciiva.com/14122/blm-series-eng-tds-14122901.pdf?src-supplier=Distrelec; ComponentLink4Description: https://datasheet.ciiva.com/14122/blm-series-eng-tds-14122901.pdf?src-supplier=Distrelec; ComponentLink5URL: https://datasheet.ciiva.com/6212/l0110s0100blm18s-6212357.pdf?src-supplier=Digikey; ComponentLink5Description: https://datasheet.ciiva.com/6212/l0110s0100blm18s-6212357.pdf?src-supplier=Digikey; ComponentLink6URL: https://datasheet.ciiva.com/6212/l0110s0100blm18s-6212359.pdf?src-supplier=Digikey; ComponentLink6Description: https://datasheet.ciiva.com/6212/l0110s0100blm18s-6212359.pdf?src-supplier=Digikey; ComponentLink7URL: https://datasheet.ciiva.com/16420/l0110s0100blm18s-16420729.pdf?src-supplier=Future+Electronics; ComponentLink7Description: https://datasheet.ciiva.com/16420/l0110s0100blm18s-16420729.pdf?src-supplier=Future+Electronics
footprint BLM18SG700TN1D-MFG
pins: 1, 2

## BQ7694000DBTR
designator U?
IC BATT MON MULTI 9-15C 44TSSOP; Mfr_Name: Texas Instruments; Output Voltage: 16V; Operating Supply Voltage: 25V; Fault Protection: Over Current,Short Circuit,Over/Under Voltage; Interface: I2C; TYPE: TYPE; RefDes: RefDes; Supplier: Digikey; Supplier Part Number: 296-BQ7694000DBTRCT-ND; Manufacturer: Texas Instruments; Manufacturer Part Number: BQ7694000DBTR; RoHS: Yes; Category: Battery Management; Stock: 3638; Pricing: 1=5.36, 10=4.094, 25=3.7776, 100=3.4295, 250=3.26352, 500=3.16352, 1000=3.08118 (USD); Mounting Technology: Surface Mount; Case/Package: TSSOP; Weight: 0.004914oz; Contact Plating: Gold; Min Operating Temperature: -40°C; Max Operating Temperature: 85°C; Packaging: Tape and Reel; Package Quantity: 2000; Series: -; Lead Free: Lead Free; RoHS Compliant: Yes; ComponentLink1URL: http://www.ti.com/general/docs/suppproductinfo.tsp?distId=10&amp;gotoUrl=http%3A%2F%2Fwww.ti.com%2Flit%2Fgpn%2Fbq76920&src-supplier=Digikey; ComponentLink1Description: http://www.ti.com/general/docs/suppproductinfo.tsp?distId=10&amp;gotoUrl=http%3A%2F%2Fwww.ti.com%2Flit%2Fgpn%2Fbq76920&src-supplier=Digikey; ComponentLink2URL: http://www.ti.com/general/docs/lit/getliterature.tsp?genericPartNumber=BQ76920&&fileType=pdf&src-supplier=Avnet; ComponentLink2Description: http://www.ti.com/general/docs/lit/getliterature.tsp?genericPartNumber=BQ76920&&fileType=pdf&src-supplier=Avnet; ComponentLink3URL: http://www.ti.com/lit/gpn/bq76940?src-supplier=Mouser; ComponentLink3Description: http://www.ti.com/lit/gpn/bq76940?src-supplier=Mouser
footprint DBT0044A_N
pins: 1 DSG, 2 CHG, 3 VSS, 4 SDA, 5 SCL, 6 TS1, 7 CAP1, 8 REGOUT, 9 REGSRC, 10 VC5X, 11 NC, 12 NC, 13 TS2, 14 CAP2, 15 VC10X, 16 NC, 17 NC, 18 TS3, 19 CAP3, 20 BAT, 21 NC, 22 NC, 23 NC, 24 VC15, 25 VC14, 26 VC13, 27 VC12, 28 VC11, 29 VC10B, 30 VC10, 31 VC9, 32 VC8, 33 VC7, 34 VC6, 35 VC5B, 36 VC5, 37 VC4, 38 VC3, 39 VC2, 40 VC1, 41 VC0, 42 SRP, 43 SRN, 44 ALERT

## BSS123LT1G
designator U?
MOSFET N-CH 100V 170MA SOT23-3; Manufacturer: ON Semiconductor / Fairchild; Package Body Material: Plastic; Transistor Element Material: SILICON; Polarity/Channel Type: N-CHANNEL; Drain-source On Resistance-Max: 6R; FET Technology: METAL-OXIDE SEMICONDUCTOR; Number of Elements: 1; Operating Mode: ENHANCEMENT MODE; Power Dissipation-Max (Abs): 225mW; Time @ Peak Reflow Temperature-Max (s): 40s; Transistor Application: SWITCHING; JEDEC-95 Code: TO-236; Qualification Status: Not Qualified; Supplier: Arrow Electronics; Supplier Part Number: BSS123LT1G; Manufacturer Part Number: BSS123LT1G; RoHS: Yes; Category: MOSFETs; Stock: 1566000; Pricing: 3000=0.0451, 9000=0.04 (USD); Pins: 3; Package Shape: Rectangular; Terminal Finish: Tin; Max Operating Temperature: 150°C; Drain Current-Max (Abs) (ID): 170mA; Drain Current-Max (ID): 170mA; DS Breakdown Voltage-Min: 100V; JESD-30 Code: R-PDSO-G3; Package Style: SMALL OUTLINEMeter; Surface Mount: Yes; Terminal Form: Gull Wing; Terminal Position: DUAL; JESD-609 Code: e3; Moisture Sensitivity Level: 1; Peak Reflow Temperature (Cel): 260°C; RoHS Compliant: Yes; Reach SVHC Compliant: Yes; ComponentLink1URL: https://datasheet.ciiva.com:443/pdfs/VipMasterIC/IC/ONSM/ONSM-S-A0007805332/ONSM-S-A0007805332-1.pdf?src-supplier=IHS+Markit; ComponentLink1Description: https://datasheet.ciiva.com:443/pdfs/VipMasterIC/IC/ONSM/ONSM-S-A0007805332/ONSM-S-A0007805332-1.pdf?src-supplier=IHS+Markit; ComponentLink2URL: https://datasheet.ciiva.com/936/bss123lt1-d-936804.pdf?src-supplier=Digikey; ComponentLink2Description: https://datasheet.ciiva.com/936/bss123lt1-d-936804.pdf?src-supplier=Digikey; ComponentLink3URL: https://datasheet.ciiva.com/34303/2012785-34303836.pdf?src-supplier=Jameco; ComponentLink3Description: https://datasheet.ciiva.com/34303/2012785-34303836.pdf?src-supplier=Jameco; ComponentLink4URL: https://datasheet.ciiva.com/22641/1708245-22641634.pdf?src-supplier=Element14; ComponentLink4Description: https://datasheet.ciiva.com/22641/1708245-22641634.pdf?src-supplier=Element14; ComponentLink5URL: https://datasheet.ciiva.com/936/bss123lt1-d-936806.pdf?src-supplier=Digikey; ComponentLink5Description: https://datasheet.ciiva.com/936/bss123lt1-d-936806.pdf?src-supplier=Digikey; ComponentLink6URL: https://datasheet.ciiva.com/15198/getdatasheetpartid-311743-15198907.pdf?src-supplier=Verical; ComponentLink6Description: https://datasheet.ciiva.com/15198/getdatasheetpartid-311743-15198907.pdf?src-supplier=Verical; ComponentLink7URL: https://datasheet.ciiva.com/8115/bss123lt1-d-8115321.pdf?src-supplier=Avnet; ComponentLink7Description: https://datasheet.ciiva.com/8115/bss123lt1-d-8115321.pdf?src-supplier=Avnet; ComponentLink8URL: https://datasheet.ciiva.com/3304/bss123lt1-d-3304421.pdf?src-supplier=Avnet; ComponentLink8Description: https://datasheet.ciiva.com/3304/bss123lt1-d-3304421.pdf?src-supplier=Avnet; ComponentLink9URL: https://datasheet.ciiva.com/1190/bss123lt1-d-1190079.pdf?src-supplier=Element14; ComponentLink9Description: https://datasheet.ciiva.com/1190/bss123lt1-d-1190079.pdf?src-supplier=Element14; ComponentLink10URL: https://datasheet.ciiva.com/1190/bss123lt1-d-1190125.pdf?src-supplier=Element14; ComponentLink10Description: https://datasheet.ciiva.com/1190/bss123lt1-d-1190125.pdf?src-supplier=Element14
footprint ONSC-SOT-23-3-318-08_V (SOT23, 3-Leads, Body 2.92x1.3mm, Pitch 0.95mm)
pins: 1 G, 2 S, 3 D

## BZT52C15-7-F
designator D?  Reference Voltage-Nom: 15V  Max Power Dissipation: 500mW
DIODE ZENER 15V 500MW SOD123; PartNumber: MMSZ12T1G; Manufacturer: On Semiconductor; Packing: Tape and Reel; P Max (W): 0.5; Diode Element Material: SILICON; Package Body Material: Plastic; Polarity: Unidirectional; Dynamic Impedance-Max: 25R; Number of Elements: 1; Voltage Tol-Max: 5%; Test Current: 5mA; Time @ Peak Reflow Temperature-Max (s): 40s; Qualification Status: Not Qualified; Additional Feature: HIGH RELIABILITY; Mounting Technology: Surface Mount; PackageReference: SOD-123-2-425-04; ComponentLink1URL: http://www.onsemi.com/; RoHS: Pb-Free; PackageDescription: 2-Pin SOD, Body 1.6 x 2.69 mm; PackageVersion: Rev. G, 10/2009; ComponentLink2URL: http://www.onsemi.com/pub_link/Collateral/MMSZ2V4T1-D.PDF; ComponentLink3URL: http://www.onsemi.com/pub_link/Collateral/425-04.PDF; DatasheetVersion: Rev. 11; ComponentLink2Description: Datasheet; ComponentLink1Description: Manufacturer URL; ComponentLink3Description: Package Specification; Supplier: Future Electronics; Supplier Part Number: 8226755; Manufacturer Part Number: MMSZ12T1G; Category: Zener Diodes; Stock: 255000; Pricing: 3000=0.0138, 9000=0.0135, 15000=0.0133, 60000=0.0129, 90000=0.0127 (USD); Pins: 2; Package Shape: Rectangular; Terminal Finish: Tin; Min Operating Temperature: -55°C; Max Operating Temperature: 150°C; JESD-609 Code: e3; Diode Type: ZENER; JESD-30 Code: R-PDSO-G2; Moisture Sensitivity Level: 1; Package Style: SMALL OUTLINEMeter; Surface Mount: Yes; Technology: ZENER; Terminal Form: Gull Wing; Terminal Position: DUAL; Peak Reflow Temperature (Cel): 260°C; Reach SVHC Compliant: Yes; RoHS Compliant: Yes; ComponentLink4URL: https://datasheet.ciiva.com:443/pdfs/VipMasterIC/IC/ONSM/ONSMS21452/ONSMS21452-1.pdf?src-supplier=IHS+Markit; ComponentLink4Description: https://datasheet.ciiva.com:443/pdfs/VipMasterIC/IC/ONSM/ONSMS21452/ONSMS21452-1.pdf?src-supplier=IHS+Markit; ComponentLink5URL: https://datasheet.ciiva.com/895/mmsz2v4t1-d-895008.pdf?src-supplier=Digikey; ComponentLink5Description: https://datasheet.ciiva.com/895/mmsz2v4t1-d-895008.pdf?src-supplier=Digikey; ComponentLink6URL: https://datasheet.ciiva.com/15142/getdatasheetpartid-38892-15142023.pdf?src-supplier=Verical; ComponentLink6Description: https://datasheet.ciiva.com/15142/getdatasheetpartid-38892-15142023.pdf?src-supplier=Verical; ComponentLink7URL: https://datasheet.ciiva.com/895/mmsz2v4t1-d-895007.pdf?src-supplier=Digikey; ComponentLink7Description: https://datasheet.ciiva.com/895/mmsz2v4t1-d-895007.pdf?src-supplier=Digikey; ComponentLink8URL: https://datasheet.ciiva.com/895/mmsz2v4t1-d-895009.pdf?src-supplier=Digikey; ComponentLink8Description: https://datasheet.ciiva.com/895/mmsz2v4t1-d-895009.pdf?src-supplier=Digikey; ComponentLink9URL: https://datasheet.ciiva.com:443/pdfs/VipMasterIC/IC/DIOD/DIOD-S-A0003550684/DIOD-S-A0003550684-1.pdf?src-supplier=IHS+Markit; ComponentLink9Description: https://datasheet.ciiva.com:443/pdfs/VipMasterIC/IC/DIOD/DIOD-S-A0003550684/DIOD-S-A0003550684-1.pdf?src-supplier=IHS+Markit; ComponentLink10URL: https://datasheet.ciiva.com/15142/getdatasheetpartid-110099-15142730.pdf?src-supplier=Verical; ComponentLink10Description: https://datasheet.ciiva.com/15142/getdatasheetpartid-110099-15142730.pdf?src-supplier=Verical; ComponentLink11URL: https://datasheet.ciiva.com/4734/ds18004-73542-4734071.pdf?src-supplier=Mouser; ComponentLink11Description: https://datasheet.ciiva.com/4734/ds18004-73542-4734071.pdf?src-supplier=Mouser; ComponentLink12URL: https://datasheet.ciiva.com/22713/1670962-22713962.pdf?src-supplier=Element14; ComponentLink12Description: https://datasheet.ciiva.com/22713/1670962-22713962.pdf?src-supplier=Element14
footprint ONSC-SOD-123-2-425-04_V (SOD, 2-Leads, Body 2.69x1.6mm)
pins: 1 K, 2 A

## CC0603KRX7R9BB103
designator C?  value 10nF  Case/Package: 0603  (hidden comment: CC0603KRX7R9BB103)
CAP CER 10000PF 50V X7R 0603; Manufacturer: Yageo; Material: Ceramic; Tolerance: 10%; Insulation Resistance: 100GR; Supplier: Future Electronics; Supplier Part Number: 4131256; Manufacturer Part Number: CC0603KRX7R9BB103; RoHS: Yes; Category: Ceramic Capacitors; Stock: 11932000; Pricing: 4000=0.0031, 16000=0.0029, 60000=0.0028, 160000=0.0027, 400000=0.0026 (USD); Mounting Technology: Surface Mount; Pins: 2; Case Code (Metric): 1608; Case Code (Imperial): 0603; Min Operating Temperature: -55°C; Max Operating Temperature: 125°C; Packaging: Tape and Reel; Voltage Rating: 50V; Voltage Rating (DC): 50V; Package Quantity: 1; Dielectric: X7R; Termination: SMD/SMT; Voltage: 50V; Series: CC; Length: 1.6mm; Width: 0.031inch; Height: 0.8mm; Thickness: 0.035inch; Depth: 0.8mm; Radiation Hardening: No; Lead Free: Lead Free; RoHS Compliant: Yes; Reach SVHC Compliant: Unknown; Halogen Free: 5694HalogenFree; ComponentLink1URL: https://datasheet.ciiva.com/26862/getdatasheetpartid-403582-26862846.pdf?src-supplier=Verical; ComponentLink1Description: https://datasheet.ciiva.com/26862/getdatasheetpartid-403582-26862846.pdf?src-supplier=Verical; ComponentLink2URL: https://datasheet.ciiva.com/11788/0900766b8079c870-11788374.pdf?src-supplier=Rs; ComponentLink2Description: https://datasheet.ciiva.com/11788/0900766b8079c870-11788374.pdf?src-supplier=Rs; ComponentLink3URL: https://datasheet.ciiva.com/176/mlccorderingcode-176550.pdf?src-supplier=Digikey; ComponentLink3Description: https://datasheet.ciiva.com/176/mlccorderingcode-176550.pdf?src-supplier=Digikey; ComponentLink4URL: https://datasheet.ciiva.com/176/mlccorderingcode-176551.pdf?src-supplier=Digikey; ComponentLink4Description: https://datasheet.ciiva.com/176/mlccorderingcode-176551.pdf?src-supplier=Digikey; ComponentLink5URL: https://datasheet.ciiva.com/176/mlccorderingcode-176552.pdf?src-supplier=Digikey; ComponentLink5Description: https://datasheet.ciiva.com/176/mlccorderingcode-176552.pdf?src-supplier=Digikey; ComponentLink6URL: https://datasheet.ciiva.com/8033/1734573-8033816.pdf?src-supplier=Element14; ComponentLink6Description: https://datasheet.ciiva.com/8033/1734573-8033816.pdf?src-supplier=Element14; ComponentLink7URL: https://datasheet.ciiva.com/8033/70765-8033817.pdf?src-supplier=Element14; ComponentLink7Description: https://datasheet.ciiva.com/8033/70765-8033817.pdf?src-supplier=Element14; ComponentLink8URL: https://datasheet.ciiva.com/8033/1734573-8033861.pdf?src-supplier=Element14; ComponentLink8Description: https://datasheet.ciiva.com/8033/1734573-8033861.pdf?src-supplier=Element14; ComponentLink9URL: https://datasheet.ciiva.com/28450/1489800-28450619.pdf?src-supplier=Element14; ComponentLink9Description: https://datasheet.ciiva.com/28450/1489800-28450619.pdf?src-supplier=Element14; ComponentLink10URL: https://datasheet.ciiva.com/13389/upy-gphc-x7r-6-3v-to-50v-8-13389991.pdf?src-supplier=Mouser; ComponentLink10Description: https://datasheet.ciiva.com/13389/upy-gphc-x7r-6-3v-to-50v-8-13389991.pdf?src-supplier=Mouser
footprint C0603-V2
pins: 1, 2

## CL10A475KO8NNNC
designator C?  value 4.7uF  Case/Package: 0603  (hidden comment: CL10A475KO8NNNC)
CAP CER 4.7UF 16V X5R 0603; Manufacturer: Samsung; Dielectric Material: Ceramic; Multilayer: Yes; Tolerance  (fill in as +-): 10%; Supplier: Digikey; Supplier Part Number: 1276-1784-1-ND; Manufacturer Part Number: CL10A475KO8NNNC; RoHS: Yes; Category: Ceramic Capacitors; Stock: 569169; Pricing: 1=0.09, 10=0.035, 100=0.0288, 1000=0.0224 (USD); Mounting Technology: Surface Mount; Pins: 2; Package Shape: Rectangular; Terminal Finish: Nickel; Min Operating Temperature: -55°C; Max Operating Temperature: 85°C; JESD-609 Code: e3; Capacitor Type: Ceramic; Package Style: SMTMeter; Packaging: Tape and Reel; Tolerance (fill in as +-): 10%; Rated DC Voltage (URdc): 16V; Temperature Characteristics Code: X5R; Termination: Wraparound; Length: 1.6mm; Width: 0.8mm; Height: 0.9mm; Reach SVHC Compliant: Yes; RoHS Compliant: Yes; ComponentLink1URL: https://datasheet.ciiva.com:443/pdfs/VipMasterIC/IC/SEMS/SEMS-S-A0008521003/SEMS-S-A0008520978-1.pdf?src-supplier=IHS+Markit; ComponentLink1Description: https://datasheet.ciiva.com:443/pdfs/VipMasterIC/IC/SEMS/SEMS-S-A0008521003/SEMS-S-A0008520978-1.pdf?src-supplier=IHS+Markit; ComponentLink2URL: https://datasheet.ciiva.com/25795/cl10a475ko8nnnc-25795890.pdf?src-supplier=Digikey; ComponentLink2Description: https://datasheet.ciiva.com/25795/cl10a475ko8nnnc-25795890.pdf?src-supplier=Digikey; ComponentLink3URL: https://datasheet.ciiva.com/26838/getdatasheetpartid-358619-26838383.pdf?src-supplier=Verical; ComponentLink3Description: https://datasheet.ciiva.com/26838/getdatasheetpartid-358619-26838383.pdf?src-supplier=Verical; ComponentLink4URL: https://datasheet.ciiva.com/29198/457663-da-01-en-vs-kondensator-0603-29198671.pdf?src-supplier=Conrad; ComponentLink4Description: https://datasheet.ciiva.com/29198/457663-da-01-en-vs-kondensator-0603-29198671.pdf?src-supplier=Conrad
footprint C0603-V2
pins: 1, 2